# Altium schematic symbol library custom.SchLib: 3 symbols
Pins are listed as number, name and electrical type; pins without a type are passive.

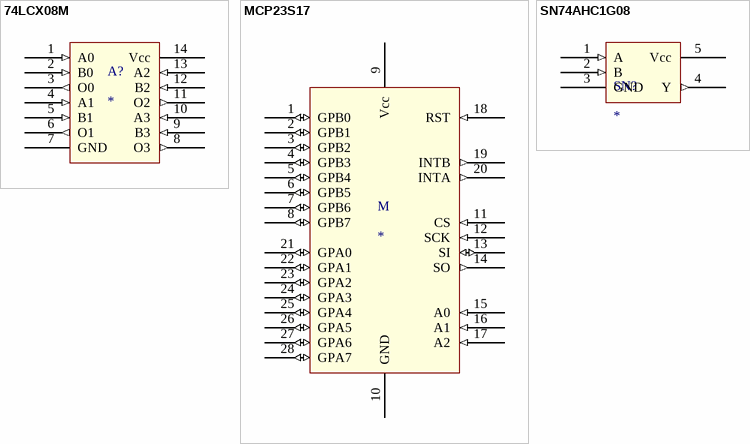
[diagram p0: symbols 74LCX08M to SN74AHC1G08]

## 74LCX08M
designator A?
14-pin 4 output AND gate
pins: 1 A0 (in), 2 B0 (in), 3 O0 (out), 4 A1 (in), 5 B1 (in), 6 O1 (out), 7 GND (power), 8 O3 (out), 9 B3 (in), 10 A3 (in), 11 O2 (out), 12 B2 (in), 13 A2 (in), 14 Vcc (power)

## MCP23S17
designator M
16-pin I/O Expander with serial interface
pins: 1 GPB0 (io), 2 GPB1 (io), 3 GPB2 (io), 4 GPB3 (io), 5 GPB4 (io), 6 GPB5 (io), 7 GPB6 (io), 8 GPB7 (io), 9 Vcc (power), 10 GND (power), 11 CS (in), 12 SCK (in), 13 SI (io), 14 SO (out), 15 A0 (in), 16 A1 (in), 17 A2 (in), 18 RST (in), 19 INTB (out), 20 INTA (out), 21 GPA0 (io), 22 GPA1 (io), 23 GPA2 (io), 24 GPA3 (io), 25 GPA4 (io), 26 GPA5 (io), 27 GPA6 (io), 28 GPA7 (io)

## SN74AHC1G08
designator SN?
pins: 1 A (in), 2 B (in), 3 GND (power), 4 Y (out), 5 Vcc (power)